# Altium footprint library RGB LED.PcbLib: 1 footprints
Each footprint in its own frame and in the unit in brackets; x right, y up, seen from the top. Pads: shape width x height; smd on the part's side, far side on the other; paste and mask are expansions set on the pad; w line width, h text height; cw(c..) or ccw(c..) is an arc to the next point about the centre after c.
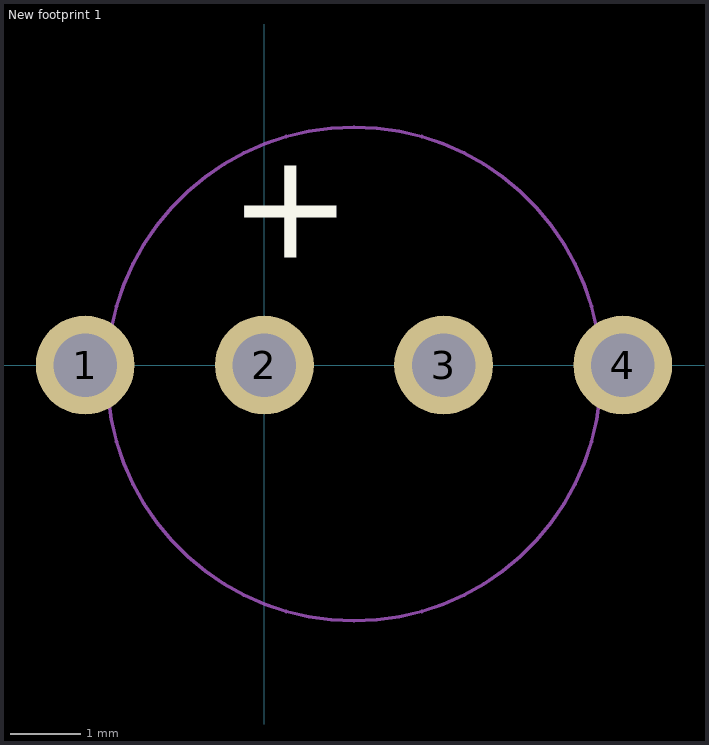
[diagram p0: the footprint, top view; thin cyan lines are the x and y axes]

## New footprint 1 [mm]
pads (4):
  round 1.4 hole 0.9: 1(-2.54,0) 2(0,0) 3(2.54,0) 4(5.08,0)
Top Overlay:
  text "+" at -0.508,1.524 h1.52
Mechanical 1:
  circle w0.05: c1.27,-0.127 r3.5